# EAGLE library part TSP62142 (library TSP)
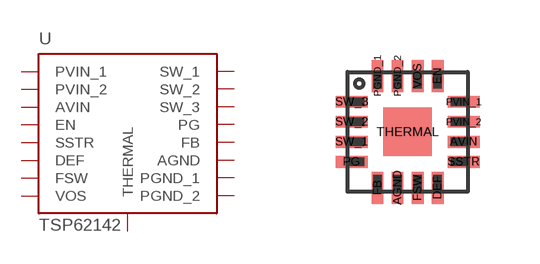
[diagram p1: symbol with the pads of TSP62142; footprint TSP62142]

Designator prefix -

## TSP62142  [TSP62142]
AGND  AGND
AVIN  AVIN
DEF  DEF
EN  EN
FB  FB
FSW  FSW
PG  PG
PGND_1  PGND_1
PGND_2  PGND_2
PVIN_1  PVIN_1
PVIN_2  PVIN_2
SSTR  SSTR
SW_1  SW_1
SW_2  SW_2
SW_3  SW_3
THERMAL  THERMAL
VOS  VOS

## Footprint TSP62142 (pad centres in mm)
smd 0.3 x 0.8: AGND -0.25,-1.4; DEF 0.75,-1.4; EN 0.75,1.4; FB -0.75,-1.4; FSW 0.25,-1.4; PGND_1 -0.75,1.4; PGND_2 -0.25,1.4; VOS 0.25,1.4
smd 0.8 x 0.3: AVIN 1.4,-0.25; PG -1.4,-0.75; PVIN_1 1.4,0.75; PVIN_2 1.4,0.25; SSTR 1.4,-0.75; SW_1 -1.4,-0.25; SW_2 -1.4,0.25; SW_3 -1.4,0.75
smd 1.22 x 1.22: THERMAL 0,0